# EAGLE library part AVRTINY-6PIN-ATTINY (library Atmel_AVR8)
8-bit Microcontroller with In-System Programmable Flash
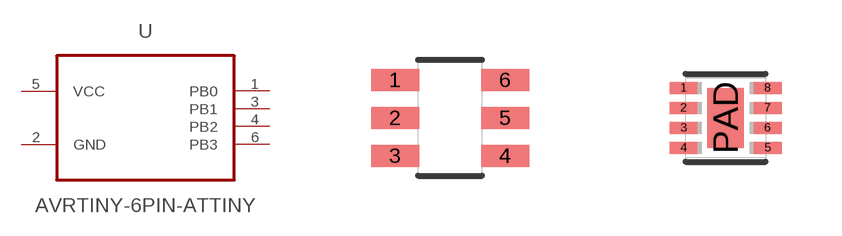
[diagram p9: symbol with the pads of 6ST1; footprints 6ST1, 8MA4]

Designator prefix -

## AVRTINY-6PIN-ATTINY10-TSHR (ADC: yes; DESCRIPTION: 0x1E 0x90 0x03; FLASH: 1024 bytes; MPN: ATTINY10-TSHR; OC_FARNELL: 1748538; OC_NEWARK: 26R5645; PACKAGE: SOT-23-6; SUPPLIER: Atmel), AVRTINY-6PIN-ATTINY4-TSHR (ADC: no; DESCRIPTION: 0x1E 0x8F 0x0A; FLASH: 512 bytes; MPN: ATTINY4-TSHR; OC_FARNELL: 1841625; OC_NEWARK: 12T1337; PACKAGE: SOT-23-6; SUPPLIER: Atmel), AVRTINY-6PIN-ATTINY5-TSHR (ADC: yes; DESCRIPTION: 0x1E 0x8F 0x09; FLASH: 512 bytes; MPN: ATTINY5-TSHR; OC_FARNELL: 1841626; OC_NEWARK: 12T1342; PACKAGE: SOT-23-6; SUPPLIER: Atmel), AVRTINY-6PIN-ATTINY9-TSHR (ADC: no; DESCRIPTION: 0x1E 0x90 0x08; FLASH: 1024 bytes; MPN: ATTINY9-TSHR; OC_FARNELL: 1841629; OC_NEWARK: 12T1345; PACKAGE: SOT-23-6; SUPPLIER: Atmel)  [6ST1]
1  PB0
2  GND  pas
3  PB1
4  PB2
5  VCC  pwr
6  PB3

## AVRTINY-6PIN-ATTINY10-MAHR (ADC: yes; DESCRIPTION: 0x1E 0x90 0x03; FLASH: 1024 bytes; MPN: ATTINY10-MAHR; PACKAGE: UDFN8; SUPPLIER: Atmel), AVRTINY-6PIN-ATTINY4-MAHR (ADC: no; DESCRIPTION: 0x1E 0x8F 0x0A; FLASH: 512 bytes; MPN: ATTINY4-MAHR; PACKAGE: UDFN8; SUPPLIER: Atmel), AVRTINY-6PIN-ATTINY5-MAHR (ADC: yes; DESCRIPTION: 0x1E 0x8F 0x09; FLASH: 512 bytes; MPN: ATTINY5-MAHR; PACKAGE: UDFN8; SUPPLIER: Atmel), AVRTINY-6PIN-ATTINY9-MAHR (ADC: no; DESCRIPTION: 0x1E 0x90 0x08; FLASH: 1024 bytes; MPN: ATTINY9-MAHR; PACKAGE: UDFN8; SUPPLIER: Atmel)  [8MA4]
1  PB1
4  GND  pas
5  PB0
6  PB3
7  VCC  pwr
8  PB2

## Footprint 6ST1 (pad centres in mm)
6-lead, 2.90 x 1.60 mm Plastic Small Outline Package (SOT23)
smd 1.2 x 0.55: 1 -1.375,0.95; 2 -1.375,0; 3 -1.375,-0.95; 4 1.375,-0.95; 5 1.375,0; 6 1.375,0.95

## Footprint 8MA4 (pad centres in mm)
8PAD, 2x2x0.6 mm body, 0.5 mm pitch, 0.9x1.5 mm exposed pad, Saw singulated Thermally enhanced plastic ultra thin dual flat no lead package (UDFN/USON) Atmel PCB Mounting Guidelines for Surface Mount Packages, Page 11 <http://www.atmel.com/images/atmel-8826-seeprom-pcb-mounting-guidelines-surface-mount-packages-applicationnote.pdf#page=11>
smd 0.7 x 0.3: 1 -1.05,0.75; 2 -1.05,0.25; 3 -1.05,-0.25; 4 -1.05,-0.75; 5 1.05,-0.75; 6 1.05,-0.25; 7 1.05,0.25; 8 1.05,0.75
smd 0.9 x 1.5: PAD 0,0